# Altium schematic symbol library hk32f-g-005-hs.SchLib: 1 symbol
Pins are listed as number, name and electrical type; pins without a type are passive.

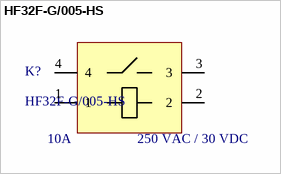
[diagram p0: symbol HF32F-G/005-HS]

## HF32F-G/005-HS
designator K?  Parameter 2: 10A  Parameter 1: 250 VAC / 30 VDC
General Purpose Non Latching 5VDC SPST-NO 10A Through Hole Relays RoHS; Manufacturer: HF (Xiamen Hongfa Electroacoustic); Mfr.Part #: HF32F-G/005-HS; LCSC Part #: C74541; Package: Through Hole; ComponentLink1Description: Datasheet; ComponentLink1URL: https://datasheet.lcsc.com/szlcsc/1810271712_HF-Xiamen-Hongfa-Electroacoustic-HF32F-G-005-HS_C74541.pdf
footprint PCBComponent_1
pins: 1, 2, 3, 4